# EAGLE library part 15EDGRC-3.81-11P (library con-degson)
15EDGRC-3.81-11P
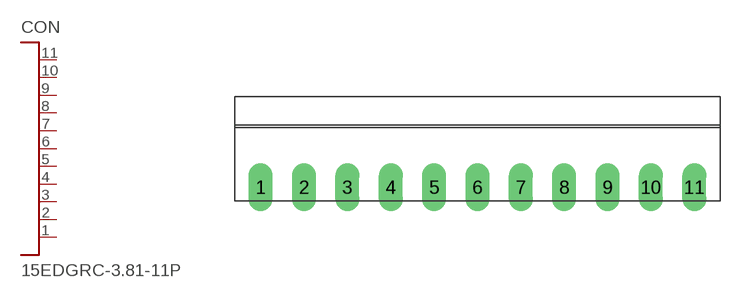
[diagram p24: symbol with the pads of 15EDGRC-3.81-11P; footprint 15EDGRC-3.81-11P]

Designator prefix CON

## 15EDGRC-3.81-11P  [15EDGRC-3.81-11P]
1  P$1
2  P$2
3  P$3
4  P$4
5  P$5
6  P$6
7  P$7
8  P$8
9  P$9
10  P$10
11  P$11

## Footprint 15EDGRC-3.81-11P (pad centres in mm)
drill 1.4 long: 1 -19.05,0; 2 -15.24,0; 3 -11.43,0; 4 -7.62,0; 5 -3.81,0; 6 0,0; 7 3.81,0; 8 7.62,0; 9 11.43,0; 10 15.24,0; 11 19.05,0